# Altium schematic symbol library AD9235BCPZ_old.SchLib: 1 symbol
Pins are listed as number, name and electrical type; pins without a type are passive.

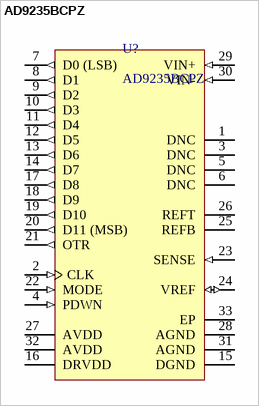
[diagram p0: symbol AD9235BCPZ]

## AD9235BCPZ
designator U?
Single 12-Bit Analog-to-Digital Converter with Parallel Interface, 40MSPS, -40 to +85 degC, CP-32-2, Pb-Free, Reel; Потребление, Вт: 0.3; Назначение: Single 12-Bit Analog-to-Digital Converter with Parallel Interface, 40MSPS, -40 to +85 degC, CP-32-2, Pb-Free, Reel; Наименование: AD9235BCPZ
footprint LFCSP-32 (32-Lead Frame Chip Scale Package 5х5)
pins: 1 DNC "Do Not Connect.", 2 CLK (in) "Clock Input Pin.", 3 DNC "Do Not Connect.", 4 PDWN (in) "Power-Down Function Selection (Active High).", 5 DNC "Do Not Connect.", 6 DNC "Do Not Connect.", 7 D0 (LSB) (out) "Data Output Bits.", 8 D1 (out) "Data Output Bits.", 9 D2 (out) "Data Output Bits.", 10 D3 (out) "Data Output Bits.", 11 D4 (out) "Data Output Bits.", 12 D5 (out) "Data Output Bits.", 13 D6 (out) "Data Output Bits.", 14 D7 (out) "Data Output Bits.", 15 DGND (power) "Digital Output Ground.", 16 DRVDD (power) "Digital Output Driver Supply. Must be decoupled to DGND with a minimum.0.1 uF capacitor. Recommended decoupling is 0.1 uF in parallel with 10 uF.", 17 D8 (out) "Data Output Bits.", 18 D9 (out) "Data Output Bits.", 19 D10 (out) "Data Output Bits.", 20 D11 (MSB) (out) "Data Output Bits.", 21 OTR (out) "Out-of-Range Indicator.", 22 MODE (in) "Data Format and Clock Duty Cycle Stabilizer (DCS) Mode Selection.", 23 SENSE (in) "Reference Mode Selection.", 24 VREF (io) "Voltage Reference Input/Output.", 25 REFB "Differential Reference (-).", 26 REFT "Differential Reference (+).", 27 AVDD (power) "Analog Power Supply.", 28 AGND (power) "Analog Ground.", 29 VIN+ (in) "Analog Input Pin (+).", 30 VIN- (in) "Analog Input Pin (-).", 31 AGND (power) "Analog Ground.", 32 AVDD (power) "Analog Power Supply.", 33 EP (power) "Exposed paddle"